# EAGLE library part MCP4821 (library microchip)
DAC 12-bit, SPI interface & internal Vref
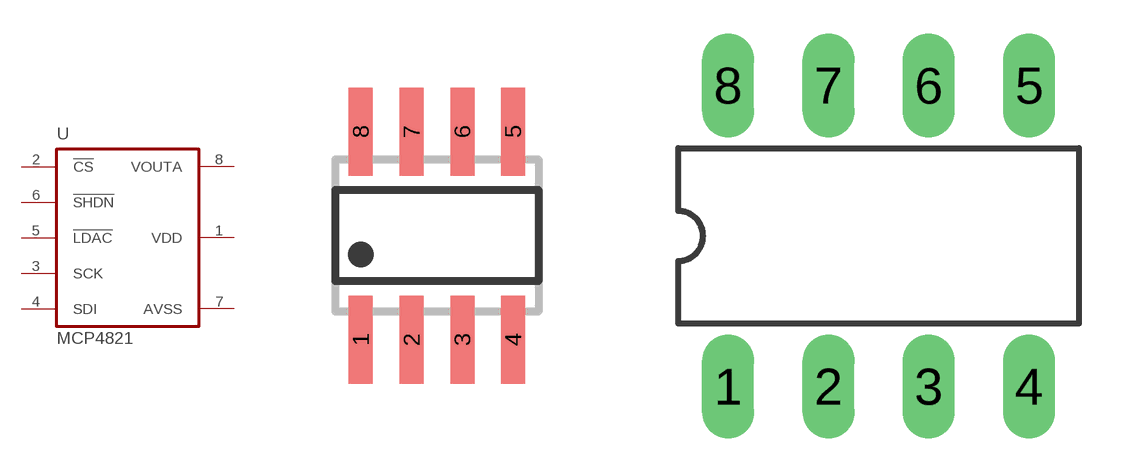
[diagram p138: symbol with the pads of SO-08; footprints SO-08, DIL8]

Designator prefix U

## MCP4821SN  [SO-08]
1  VDD  pwr
2  !CS!  in
3  SCK  in
4  SDI  in
5  !LDAC!  in
6  !SHDN!  in
7  AVSS  pwr
8  VOUTA  out

## MCP4821P  [DIL8]
Pads as for SO-08

## MCP4821MS  [MSOP8]
Pads as for SO-08

## Footprint SO-08 (pad centres in mm)
Small Outline Narrow Plastic Gull Wing 150-mil body, package type SN
smd 0.6 x 2.2: 1 -1.905,-2.6; 2 -0.635,-2.6; 3 0.635,-2.6; 4 1.905,-2.6; 5 1.905,2.6; 6 0.635,2.6; 7 -0.635,2.6; 8 -1.905,2.6

## Footprint DIL8 (pad centres in mm)
Dual In Line package type P
drill 0.813 long: 1 -3.81,-3.81; 2 -1.27,-3.81; 3 1.27,-3.81; 4 3.81,-3.81; 5 3.81,3.81; 6 1.27,3.81; 7 -1.27,3.81; 8 -3.81,3.81

## Footprint MSOP8 (pad centres in mm)
Micro Small Outline Package
smd 0.45 x 1.3: 1 -0.975,-2.05; 2 -0.325,-2.05; 3 0.325,-2.05; 4 0.975,-2.05; 5 0.975,2.05; 6 0.325,2.05; 7 -0.325,2.05; 8 -0.975,2.05